# Altium integrated library Intel.IntLib: 1 symbol
Pins are listed as number, name and electrical type; pins without a type are passive.

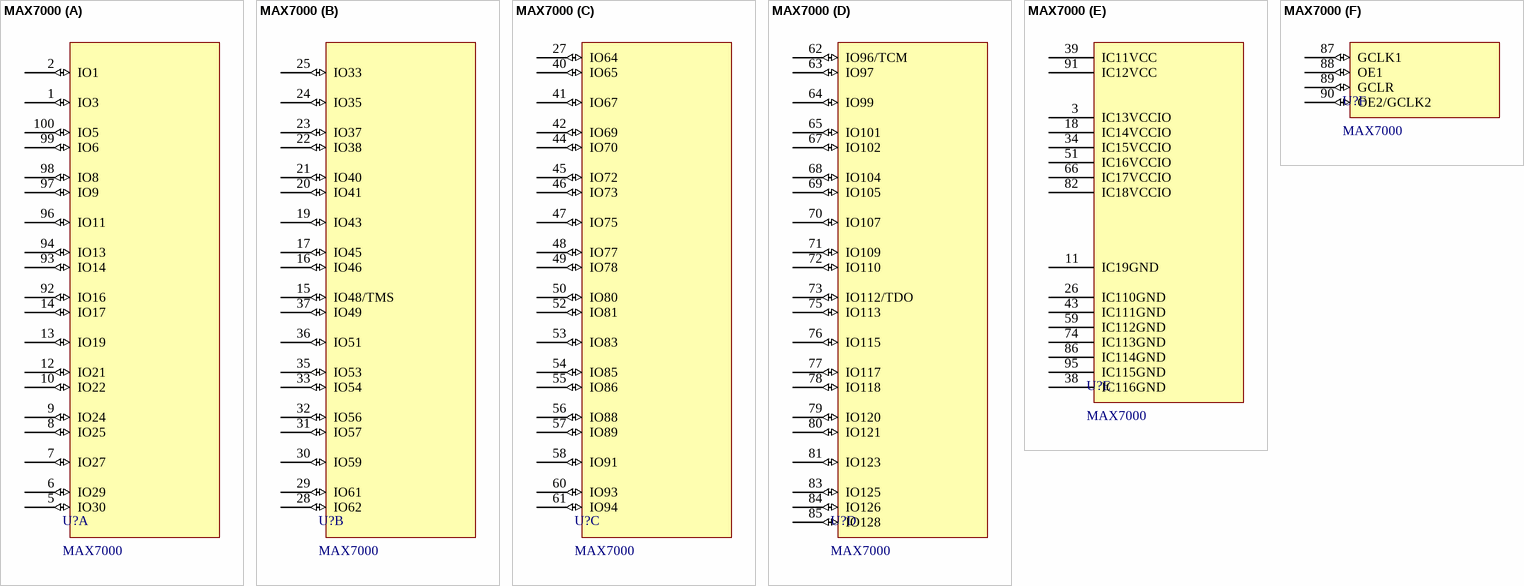
[diagram p0: symbol MAX7000]

## MAX7000
designator U?
footprint TQFP100 (TSQFP, 100-Leads, Body 12,00x12,00mm, Pitch 0,40mm, IPC Medium Density)
part A pins: 1 IO3 (io), 2 IO1 (io), 5 IO30 (io), 6 IO29 (io), 7 IO27 (io), 8 IO25 (io), 9 IO24 (io), 10 IO22 (io), 12 IO21 (io), 13 IO19 (io), 14 IO17 (io), 92 IO16 (io), 93 IO14 (io), 94 IO13 (io), 96 IO11 (io), 97 IO9 (io), 98 IO8 (io), 99 IO6 (io), 100 IO5 (io)
part B pins: 15 IO48/TMS (io), 16 IO46 (io), 17 IO45 (io), 19 IO43 (io), 20 IO41 (io), 21 IO40 (io), 22 IO38 (io), 23 IO37 (io), 24 IO35 (io), 25 IO33 (io), 28 IO62 (io), 29 IO61 (io), 30 IO59 (io), 31 IO57 (io), 32 IO56 (io), 33 IO54 (io), 35 IO53 (io), 36 IO51 (io), 37 IO49 (io)
part C pins: 27 IO64 (io), 40 IO65 (io), 41 IO67 (io), 42 IO69 (io), 44 IO70 (io), 45 IO72 (io), 46 IO73 (io), 47 IO75 (io), 48 IO77 (io), 49 IO78 (io), 50 IO80 (io), 52 IO81 (io), 53 IO83 (io), 54 IO85 (io), 55 IO86 (io), 56 IO88 (io), 57 IO89 (io), 58 IO91 (io), 60 IO93 (io), 61 IO94 (io)
part D pins: 62 IO96/TCM (io), 63 IO97 (io), 64 IO99 (io), 65 IO101 (io), 67 IO102 (io), 68 IO104 (io), 69 IO105 (io), 70 IO107 (io), 71 IO109 (io), 72 IO110 (io), 73 IO112/TDO (io), 75 IO113 (io), 76 IO115 (io), 77 IO117 (io), 78 IO118 (io), 79 IO120 (io), 80 IO121 (io), 81 IO123 (io), 83 IO125 (io), 84 IO126 (io), 85 IO128 (io)
part E pins: 3 IC13VCCIO (power), 11 IC19GND (power), 18 IC14VCCIO (power), 26 IC110GND (power), 34 IC15VCCIO (power), 38 IC116GND (power), 39 IC11VCC (power), 43 IC111GND (power), 51 IC16VCCIO (power), 59 IC112GND (power), 66 IC17VCCIO (power), 74 IC113GND (power), 82 IC18VCCIO (power), 86 IC114GND (power), 91 IC12VCC (power), 95 IC115GND (power)
part F pins: 87 GCLK1 (io), 88 OE1 (io), 89 GCLR (io), 90 OE2/GCLK2 (io)